# EAGLE library part CRD89C51RD1T (library micro-cyrod)
8 bit, fast, microcontroller with 64KB program/ISP Flash and 2KB RAM Auto generated by make-symbol-device-package-bsdl.ulp Rev. 34 Source: www.cyrod.com .. CRD89C51RD1T-V10.pdf
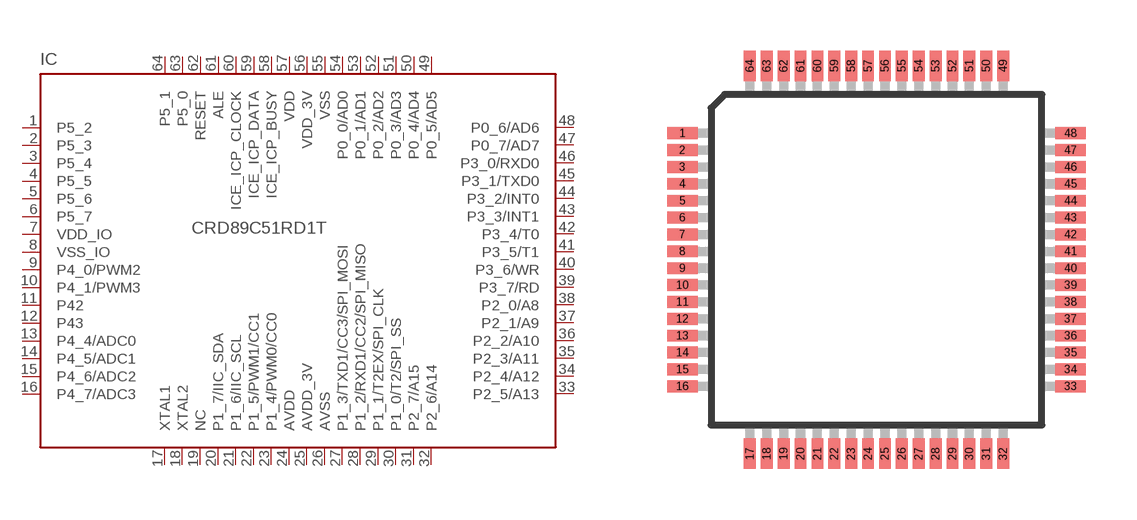
[diagram p0: symbol with the pads of TQFP64L-10X10X2.0MM; footprint TQFP64L-10X10X2.0MM]

Designator prefix IC

## CRD89C51RD1T (OC_FARNELL: unknown; OC_NEWARK: unknown)  [TQFP64L-10X10X2.0MM]
1  P5_2
2  P5_3
3  P5_4
4  P5_5
5  P5_6
6  P5_7
7  VDD_IO  pwr
8  VSS_IO  pwr
9  P4_0/PWM2
10  P4_1/PWM3
11  P42
12  P43
13  P4_4/ADC0
14  P4_5/ADC1
15  P4_6/ADC2
16  P4_7/ADC3
17  XTAL1  in
18  XTAL2  out
19  NC  nc
20  P1_7/IIC_SDA
21  P1_6/IIC_SCL
22  P1_5/PWM1/CC1
23  P1_4/PWM0/CC0
24  AVDD  pwr
25  AVDD_3V  pwr
26  AVSS  pwr
27  P1_3/TXD1/CC3/SPI_MOSI
28  P1_2/RXD1/CC2/SPI_MISO
29  P1_1/T2EX/SPI_CLK
30  P1_0/T2/SPI_SS
31  P2_7/A15
32  P2_6/A14
33  P2_5/A13
34  P2_4/A12
35  P2_3/A11
36  P2_2/A10
37  P2_1/A9
38  P2_0/A8
39  P3_7/RD
40  P3_6/WR
41  P3_5/T1
42  P3_4/T0
43  P3_3/INT1
44  P3_2/INT0
45  P3_1/TXD0
46  P3_0/RXD0
47  P0_7/AD7
48  P0_6/AD6
49  P0_5/AD5
50  P0_4/AD4
51  P0_3/AD3
52  P0_2/AD2
53  P0_1/AD1
54  P0_0/AD0
55  VSS  pwr
56  VDD_3V  pwr
57  VDD  pwr
58  ICE_ICP_BUSY  out
59  ICE_ICP_DATA
60  ICE_ICP_CLOCK
61  ALE  out
62  RESET  in
63  P5_0
64  P5_1

## Footprint TQFP64L-10X10X2.0MM (pad centres in mm)
TQFP 64L-10X10X2.0 MM Auto generated by make-symbol-device-package-bsdl.ulp Rev. 34 Source: www.cyrod.com .. CRD89C51RD1T-V10.pdf
smd 0.9 x 0.35: 1 -5.75,3.75; 2 -5.75,3.25; 3 -5.75,2.75; 4 -5.75,2.25; 5 -5.75,1.75; 6 -5.75,1.25; 7 -5.75,0.75; 8 -5.75,0.25; 9 -5.75,-0.25; 10 -5.75,-0.75; 11 -5.75,-1.25; 12 -5.75,-1.75; 13 -5.75,-2.25; 14 -5.75,-2.75; 15 -5.75,-3.25; 16 -5.75,-3.75; 33 5.75,-3.75; 34 5.75,-3.25; 35 5.75,-2.75; 36 5.75,-2.25; 37 5.75,-1.75; 38 5.75,-1.25; 39 5.75,-0.75; 40 5.75,-0.25; 41 5.75,0.25; 42 5.75,0.75; 43 5.75,1.25; 44 5.75,1.75; 45 5.75,2.25; 46 5.75,2.75; 47 5.75,3.25; 48 5.75,3.75
smd 0.35 x 0.9: 17 -3.75,-5.75; 18 -3.25,-5.75; 19 -2.75,-5.75; 20 -2.25,-5.75; 21 -1.75,-5.75; 22 -1.25,-5.75; 23 -0.75,-5.75; 24 -0.25,-5.75; 25 0.25,-5.75; 26 0.75,-5.75; 27 1.25,-5.75; 28 1.75,-5.75; 29 2.25,-5.75; 30 2.75,-5.75; 31 3.25,-5.75; 32 3.75,-5.75; 49 3.75,5.75; 50 3.25,5.75; 51 2.75,5.75; 52 2.25,5.75; 53 1.75,5.75; 54 1.25,5.75; 55 0.75,5.75; 56 0.25,5.75; 57 -0.25,5.75; 58 -0.75,5.75; 59 -1.25,5.75; 60 -1.75,5.75; 61 -2.25,5.75; 62 -2.75,5.75; 63 -3.25,5.75; 64 -3.75,5.75